# EAGLE library part BLUETOOTH_RM198 (library 0_bluetooth)
Hens' ebay blutooth chip
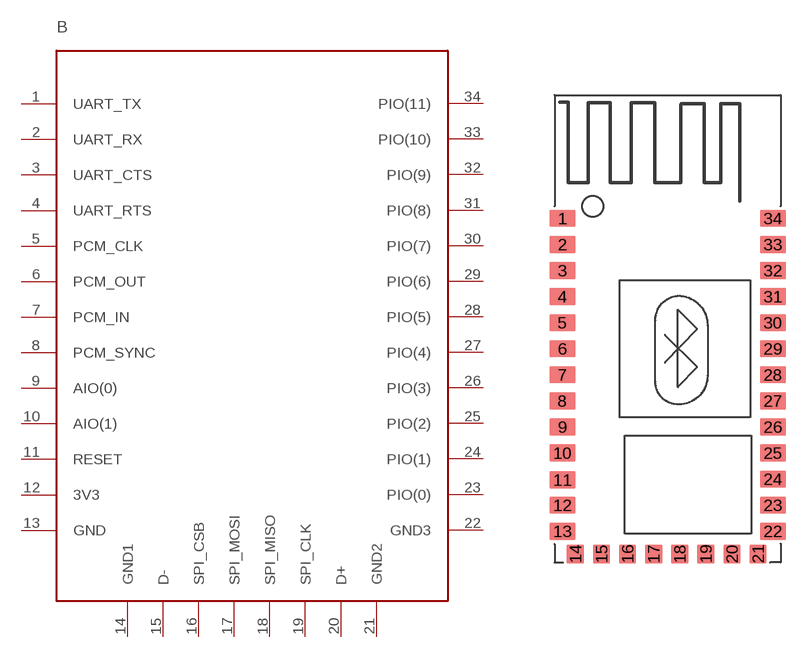
[diagram p0: symbol with the pads of CD_BMX_BLUETOOTH; footprint CD_BMX_BLUETOOTH]

Designator prefix B

## BLUETOOTH_RM198  [CD_BMX_BLUETOOTH]
1  UART_TX
2  UART_RX
3  UART_CTS
4  UART_RTS
5  PCM_CLK
6  PCM_OUT
7  PCM_IN
8  PCM_SYNC
9  AIO(0)
10  AIO(1)
11  RESET
12  3V3  pwr
13  GND  pwr
14  GND1  pwr
15  D-
16  SPI_CSB
17  SPI_MOSI
18  SPI_MISO
19  SPI_CLK
20  D+
21  GND2  pwr
22  GND3  pwr
23  PIO(0)
24  PIO(1)
25  PIO(2)
26  PIO(3)
27  PIO(4)
28  PIO(5)
29  PIO(6)
30  PIO(7)
31  PIO(8)
32  PIO(9)
33  PIO(10)
34  PIO(11)

## Footprint CD_BMX_BLUETOOTH (pad centres in mm)
smd 1.5 x 1: 1 -6.05,6.35; 2 -6.05,4.85; 3 -6.05,3.35; 4 -6.05,1.85; 5 -6.05,0.35; 6 -6.05,-1.15; 7 -6.05,-2.65; 8 -6.05,-4.15; 9 -6.05,-5.65; 10 -6.05,-7.15; 11 -6.05,-8.7; 12 -6.05,-10.15; 13 -6.05,-11.65; 22 6.05,-11.65; 23 6.05,-10.15; 24 6.05,-8.65; 25 6.05,-7.15; 26 6.05,-5.65; 27 6.05,-4.15; 28 6.05,-2.65; 29 6.05,-1.15; 30 6.05,0.35; 31 6.05,1.85; 32 6.05,3.35; 33 6.05,4.85; 34 6.05,6.35
smd 1 x 1.1: 14 -5.3,-12.96; 15 -3.8,-12.96; 16 -2.3,-12.96; 17 -0.8,-12.96; 18 0.7,-12.96; 19 2.2,-12.96; 20 3.7,-12.96; 21 5.2,-12.96